# Altium schematic symbol library SchLib_ADH.SchLib: 241 symbols (part 9 of 9)
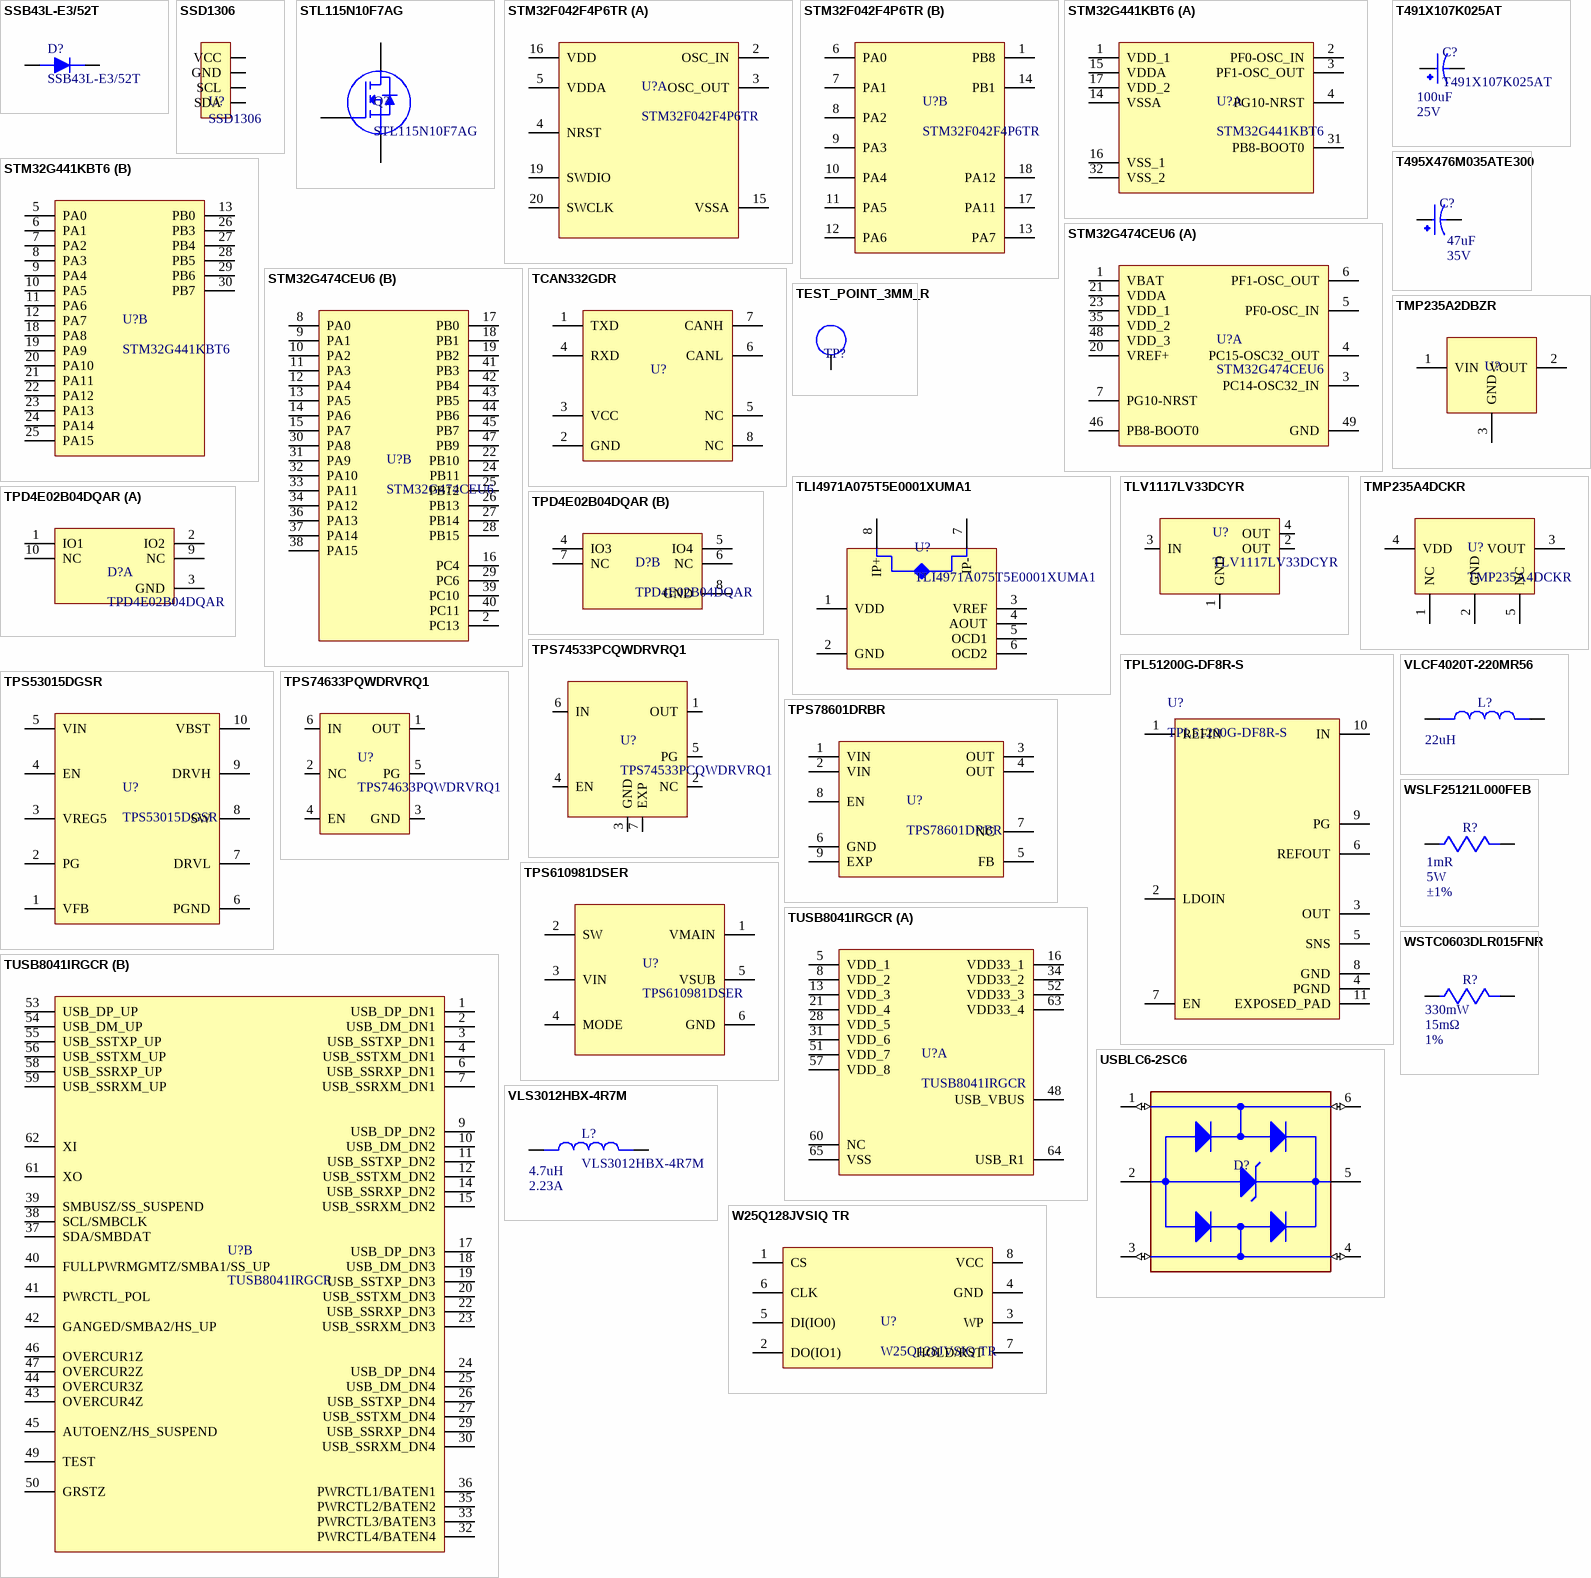
[diagram p15: symbols SSB43L-E3/52T to WSTC0603DLR015FNR]

## TCAN332GDR
designator U?  (value not drawn)
1/1 Transceiver CANbus 8-SOIC; Manufacturer: Texas Instruments; Package Body Material: Plastic; Channels: 1; Nominal Supply Voltage: 3.3V; Telecom IC Type: INTERFACE CIRCUIT; Supplier 1: Digikey; Manufacturer Part Number: TCAN332GDR; RoHS: Yes; Category: Interface ICs; Stock 1: 9379; Pricing 1: 1=2.78, 10=2.493, 25=2.3564, 100=2.0424, 250=1.93764, 500=1.73864, 1000=1.46632 (USD); Case/Package: SOP; Pins: 8; Package Shape: Rectangular; Terminal Finish: Nickel; Min Operating Temperature: -40°C; Max Operating Temperature: 125°C; JESD-609 Code: e4; JESD-30 Code: R-PDSO-G8; Moisture Sensitivity Level: 1; Package Style: SMALL OUTLINEMeter; Surface Mount: Yes; Terminal Form: Gull Wing; Terminal Position: DUAL; Length: 4.9mm; Width: 3.9mm; Height - Seated (Max): 1.75mm; Terminal Pitch: 1.27mm; Temperature Grade: AUTOMOTIVE; Reach SVHC Compliant: Yes; RoHS Compliant: Yes; ComponentLink1URL: https://www.ti.com:443/lit/ds/symlink/tcan330.pdf?src-supplier=IHS+Markit; ComponentLink1Description: https://www.ti.com:443/lit/ds/symlink/tcan330.pdf?src-supplier=IHS+Markit; ComponentLink2URL: http://www.ti.com/lit/ds/symlink/tcan332.pdf?src-supplier=Digikey; ComponentLink2Description: http://www.ti.com/lit/ds/symlink/tcan332.pdf?src-supplier=Digikey; ComponentLink3URL: http://www.ti.com/general/docs/suppproductinfo.tsp?distId=10&amp;gotoUrl=http%3A%2F%2Fwww.ti.com%2Flit%2Fgpn%2Ftcan332&src-supplier=Digikey; ComponentLink3Description: http://www.ti.com/general/docs/suppproductinfo.tsp?distId=10&amp;gotoUrl=http%3A%2F%2Fwww.ti.com%2Flit%2Fgpn%2Ftcan332&src-supplier=Digikey; ComponentLink4URL: http://www.ti.com/lit/gpn/tcan332g?src-supplier=Mouser; ComponentLink4Description: http://www.ti.com/lit/gpn/tcan332g?src-supplier=Mouser; Supplier Part Number 1: 296-48678-1-ND
footprint SOIC127P599X175-8N
pins: 1 TXD, 2 GND, 3 VCC, 4 RXD, 5 NC, 6 CANL, 7 CANH, 8 NC

## TEST_POINT_3MM_R
designator TP?, comment TEST_POINT  (value not drawn)
Test Point R=3mm
footprint TEST_POINT_3MM
pins: 1

## TLI4971A075T5E0001XUMA1
designator U?
TLI4971 Series 3.5 V 75 A High Precision Coreless Current Sensor - PG-TISON-8; Manufacturer: Infineon; Supplier: Digikey; Supplier Part Number: 448-TLI4971A075T5E0001XUMA1CT-ND; Manufacturer Part Number: TLI4971A075T5E0001XUMA1; RoHS: No; Category: Uncategorized; Stock: 7950; Pricing: 1=6,14, 10=4,606, 25=4,094, 50=3,8894, 100=3,7871, 500=3,17296, 1000=2,96825 (USD)
footprint TLI4971A075T5E0001XUMA1
pins: 1 VDD, 2 GND, 3 VREF, 4 AOUT, 5 OCD1, 6 OCD2, 7 IP-, 8 IP+

## TLV1117LV33DCYR
designator U?
IC REG LDO 3.3V 1A SOT223; Manufacturer: Texas Instruments; Supplier: Digi-Key; Supplier Part Number: 296-28778-1-ND; Manufacturer Part Number: TLV1117LV33DCYR; RoHS: Yes; Category: Voltage Regulators - Linear; Stock: 34293; Pricing: 1=0,35, 10=0,285, 25=0,2604, 100=0,1939, 250=0,17576, 500=0,14544, 1000=0,10908 (USD); ComponentLink1URL: https://datasheet.ciiva.com/2060/tlv1117lv-2060227.pdf?src-supplier=Digi-Key; ComponentLink1Description: https://datasheet.ciiva.com/2060/tlv1117lv-2060227.pdf?src-supplier=Digi-Key; ComponentLink2URL: https://datasheet.ciiva.com/2060/tlv1117lv-2060228.pdf?src-supplier=Digi-Key; ComponentLink2Description: https://datasheet.ciiva.com/2060/tlv1117lv-2060228.pdf?src-supplier=Digi-Key; ComponentLink3URL: https://datasheet.ciiva.com/2060/tlv1117lv-2060226.pdf?src-supplier=Digi-Key; ComponentLink3Description: https://datasheet.ciiva.com/2060/tlv1117lv-2060226.pdf?src-supplier=Digi-Key; ComponentLink4URL: https://datasheet.ciiva.com/46443/1857581-46443437.pdf?src-supplier=Element14; ComponentLink4Description: https://datasheet.ciiva.com/46443/1857581-46443437.pdf?src-supplier=Element14; ComponentLink5URL: https://datasheet.ciiva.com/46443/1857581-46443438.pdf?src-supplier=Element14; ComponentLink5Description: https://datasheet.ciiva.com/46443/1857581-46443438.pdf?src-supplier=Element14; ComponentLink6URL: https://datasheet.ciiva.com/46443/1857581-46443450.pdf?src-supplier=Element14; ComponentLink6Description: https://datasheet.ciiva.com/46443/1857581-46443450.pdf?src-supplier=Element14
footprint VREG_TLV1117LV33DCYR
pins: 1 GND, 2 OUT, 3 IN, 4 OUT

## TMP235A2DBZR
designator U?  (value not drawn)
Analog Voltage Output Sensor, 2Cel, Rectangular, Surface Mount; Manufacturer: Texas Instruments; Sensor Type: TEMPERATURE SENSOR,ANALOG,VOLTAGE OUTPUT; Supplier 1: Digikey; Manufacturer Part Number: TMP235A2DBZR; RoHS: Yes; Category: Integrated Circuits (ICs); Stock 1: 6332; Pricing 1: 1=0.6, 10=0.46, 25=0.396, 50=0.3818, 100=0.3252, 500=0.2828, 1000=0.24745 (USD); Terminal Finish: Nickel; JESD-609 Code: e4; Reach SVHC Compliant: Yes; RoHS Compliant: Yes; ComponentLink1URL: https://www.ti.com:443/lit/ds/symlink/tmp235.pdf?src-supplier=IHS+Markit; ComponentLink1Description: https://www.ti.com:443/lit/ds/symlink/tmp235.pdf?src-supplier=IHS+Markit; ComponentLink2URL: http://www.ti.com/lit/gpn/tmp235?src-supplier=Digikey; ComponentLink2Description: http://www.ti.com/lit/gpn/tmp235?src-supplier=Digikey; ComponentLink3URL: http://www.ti.com/general/docs/suppproductinfo.tsp?distId=10&amp;gotoUrl=http%3A%2F%2Fwww.ti.com%2Flit%2Fgpn%2Ftmp235&src-supplier=Digikey; ComponentLink3Description: http://www.ti.com/general/docs/suppproductinfo.tsp?distId=10&amp;gotoUrl=http%3A%2F%2Fwww.ti.com%2Flit%2Fgpn%2Ftmp235&src-supplier=Digikey; Supplier Part Number 1: 296-TMP235A2DBZRCT-ND
footprint SOT95P230X110-3N
pins: 1 VIN, 2 VOUT, 3 GND

## TMP235A4DCKR
designator U?
±1.2°C 2.3V to 5.5V analog output temperature sensor with 10 mV/C gain 5-SC70 -40 to 150; Manufacturer: Texas Instruments; Output Current: 500uA; Supplier: Digikey; Supplier Part Number: 296-50016-1-ND; Manufacturer Part Number: TMP235A4DCKR; RoHS: Yes; Category: Integrated Circuits (ICs); Stock: 9360; Pricing: 1=0,44, 10=0,37, 25=0,3248, 50=0,305, 100=0,26, 500=0,21498, 1000=0,17998 (USD); Pins: 5NUMBER; Max Supply Voltage: 5.5V; Min Supply Voltage: 2.3V; Length: 2mm; Width: 1.25mm; Height: 1.1mm; Thickness: 900um; ComponentLink1URL: http://www.ti.com/general/docs/suppproductinfo.tsp?distId=10&amp;gotoUrl=http%3A%2F%2Fwww.ti.com%2Flit%2Fgpn%2Ftmp235&src-supplier=Digikey; ComponentLink1Description: http://www.ti.com/general/docs/suppproductinfo.tsp?distId=10&amp;gotoUrl=http%3A%2F%2Fwww.ti.com%2Flit%2Fgpn%2Ftmp235&src-supplier=Digikey; ComponentLink2URL: http://www.ti.com/lit/ds/symlink/tmp235.pdf?src-supplier=Digikey; ComponentLink2Description: http://www.ti.com/lit/ds/symlink/tmp235.pdf?src-supplier=Digikey
footprint SOT65P210X110-5N
pins: 1 NC, 2 GND, 3 VOUT, 4 VDD, 5 NC

## TPD4E02B04DQAR
designator D?
TVS DIODE 3.6V 8.8V 10USON / 4-Channel ESD Protection Diode for USB Type-C and HDMI 2.0; Manufacturer: Texas Instruments; Number of Bidirectional Channels: 4; Min Breakdown Voltage: 5.5V; Peak Pulse Power: 17W; Power Line Protection: No; Peak Pulse Current: 5A; Interface: USB,HDMI; Diode Type: ZENER; Direction: 211Direction; Breakdown Voltage: 6.4V; Supplier: Digikey; Supplier Part Number: 296-43875-1-ND; Manufacturer Part Number: TPD4E02B04DQAR; RoHS: Yes; Category: Integrated Circuits (ICs); Stock: 40100; Pricing: 1=0,58, 10=0,495, 100=0,344, 500=0,26858, 1000=0,21831 (USD); Mounting Technology: Surface Mount; Pins: 10; Min Operating Temperature: -40°C; Max Operating Temperature: 125°C; Packaging: Cut Tape; Reverse Standoff Voltage: 3.6V; Operating Supply Voltage: 3.6V; Number of Channels: 4; Series: -; Length: 2.5mm; Width: 1mm; Height: 550um; Thickness: 500um; Reach SVHC Compliant: No; Lead Free: Lead Free; RoHS Compliant: Yes; ComponentLink1URL: http://www.ti.com/lit/ds/symlink/tpd4e02b04.pdf?src-supplier=Farnell; ComponentLink1Description: http://www.ti.com/lit/ds/symlink/tpd4e02b04.pdf?src-supplier=Farnell; ComponentLink2URL: http://www.ti.com/general/docs/lit/getliterature.tsp?genericPartNumber=TPD4E02B04&amp;&amp;fileType=pdf&src-supplier=Element14; ComponentLink2Description: http://www.ti.com/general/docs/lit/getliterature.tsp?genericPartNumber=TPD4E02B04&amp;&amp;fileType=pdf&src-supplier=Element14; ComponentLink3URL: http://www.ti.com/lit/ds/symlink/tpd4e02b04.pdf?src-supplier=Digikey; ComponentLink3Description: http://www.ti.com/lit/ds/symlink/tpd4e02b04.pdf?src-supplier=Digikey; ComponentLink4URL: http://www.ti.com/lit/ds/symlink/tpd4e02b04.pdf?src-supplier=Newark; ComponentLink4Description: http://www.ti.com/lit/ds/symlink/tpd4e02b04.pdf?src-supplier=Newark
footprint 10-UFDFN
part A pins: 1 IO1, 2 IO2, 3 GND, 9 NC, 10 NC
part B pins: 4 IO3, 5 IO4, 6 NC, 7 NC, 8 GND

## TPL51200G-DF8R-S
designator U?
Converter, DDR Bus Termination Regulator Voltage Regulator IC 2 Output 10-DFN (3x3); Datasheet: https://static.3peak.com/res/doc/ds/Datasheet_TPL51200.pdf
footprint SON50P300X300X80-11N
pins: 1 REFIN, 2 LDOIN, 3 OUT, 4 PGND, 5 SNS, 6 REFOUT, 7 EN, 8 GND, 9 PG, 10 IN, 11 EXPOSED_PAD

## TPS53015DGSR
designator U?
Buck Regulator Positive Output Step-Down  DC-DC Controller IC 10-VSSOP; Manufacturer: Texas Instruments; Supplier: Digikey; Supplier Part Number: 296-40777-1-ND; Manufacturer Part Number: TPS53015DGSR; RoHS: Yes; Category: Voltage Regulators - Switching; Stock: 7535; Pricing: 1=1,57, 10=1,4, 25=1,3292, 100=1,0918, 250=1,0206, 500=0,90192, 1000=0,71205 (USD); ComponentLink1URL: https://datasheet.ciiva.com/6594/tps53015-6594678.pdf?src-supplier=Digikey; ComponentLink1Description: https://datasheet.ciiva.com/6594/tps53015-6594678.pdf?src-supplier=Digikey
footprint VSSOP-10
pins: 1 VFB, 2 PG, 3 VREG5, 4 EN, 5 VIN, 6 PGND, 7 DRVL, 8 SW, 9 DRVH, 10 VBST

## TPS74533PCQWDRVRQ1
designator U?
Automotive 500-mA, low-IQ, high-PSRR, low-dropout (LDO) voltage regulator with power good</p 6-WSON -40 to 125; Manufacturer: Texas Instruments; Supplier: Digi-Key; Supplier Part Number: 296-TPS74533PCQWDRVRQ1CT-ND; Manufacturer Part Number: TPS74533PCQWDRVRQ1; RoHS: Yes; Category: Integrated Circuits (ICs); Stock: 5498; Pricing: 1=1,28, 10=1,147, 25=1,0888, 100=0,8944, 250=0,83604, 500=0,73882, 1000=0,58328 (USD); ComponentLink1URL: http://www.ti.com/general/docs/suppproductinfo.tsp?distId=10&amp;gotoUrl=http%3A%2F%2Fwww.ti.com%2Flit%2Fgpn%2Ftps745-q1&src-supplier=Digi-Key; ComponentLink1Description: http://www.ti.com/general/docs/suppproductinfo.tsp?distId=10&amp;gotoUrl=http%3A%2F%2Fwww.ti.com%2Flit%2Fgpn%2Ftps745-q1&src-supplier=Digi-Key
footprint SON65P200X200X80-7N
pins: 1 OUT, 2 NC, 3 GND, 4 EN, 5 PG, 6 IN, 7 EXP

## TPS74633PQWDRVRQ1
designator U?
Automotive 1-A, low-IQ, high-PSRR, low-dropout (LDO) voltage regulator with power good 6-WSON -40 to 125; Manufacturer: Texas Instruments; Supplier: Digi-Key; Supplier Part Number: 296-TPS74633PQWDRVRQ1CT-ND; Manufacturer Part Number: TPS74633PQWDRVRQ1; RoHS: Yes; Category: Integrated Circuits (ICs); Stock: 2693; Pricing: 1=1,46, 10=1,302, 25=1,236, 100=1,0152, 250=0,94896, 500=0,8386, 1000=0,66206 (USD)
footprint SON65P200X200X80-7N
pins: 1 OUT, 2 NC, 3 GND, 4 EN, 5 PG, 6 IN

## TPS78601DRBR
designator U?
Adjustable Positive LDO Regulator, 1.2V Min, 5.5V Max, BICMOS, PDSO8; Manufacturer: Texas Instruments; Package Body Material: Plastic; Dropout Voltage1-Nom: 410mV; Line Regulation-Max (%/V): 0.12; Channels: 1; Output Current1-Max: 1.5A; Package Equivalence Code: SOLCC8,.12,25; Regulator Type: ADJUSTABLE POSITIVE SINGLE OUTPUT LDO REGULATOR; Qualification Status: Not Qualified; Supplier 1: Digikey; Manufacturer Part Number: TPS78601DRBR; RoHS: Yes; Category: Voltage Regulators - Linear; Stock 1: 6178; Pricing 1: 1=2.82, 10=2.053, 25=1.862, 100=1.7707 (USD); Case/Package: HVSON; Pins: 8; Package Shape: Square; Terminal Finish: Nickel; JESD-609 Code: e4; Adjustability: ADJUSTABLE; JESD-30 Code: S-PDSO-N8; Moisture Sensitivity Level: 2; Number of Outputs: 1; Operating Temperature, TJ-Max: 125°C; Operating Temperature, TJ-Min: -40°C; Output Voltage1-Max: 5.5V; Output Voltage1-Min: 1.2V; Package Style: SMALL OUTLINE, HEAT SINK/SLUG, VERY THIN PROFILEMeter; Packaging: Tape and Reel; Peak Reflow Temperature (Cel): 260°C; Surface Mount: Yes; Technology: BICMOS; Terminal Form: No Lead; Terminal Position: DUAL; Length: 3mm; Width: 3mm; Height - Seated (Max): 1mm; Terminal Pitch: 0.65mm; Reach SVHC Compliant: Yes; RoHS Compliant: Yes; ComponentLink1URL: https://datasheet.ciiva.com:443/pdfs/VipMasterIC/IC/TXII/TXII-S-A0008609919/TXII-S-A0009735718-1.pdf?src-supplier=IHS+Markit; ComponentLink1Description: https://datasheet.ciiva.com:443/pdfs/VipMasterIC/IC/TXII/TXII-S-A0008609919/TXII-S-A0009735718-1.pdf?src-supplier=IHS+Markit; ComponentLink2URL: https://datasheet.ciiva.com/2046/tps78601-2046274.pdf?src-supplier=Digikey; ComponentLink2Description: https://datasheet.ciiva.com/2046/tps78601-2046274.pdf?src-supplier=Digikey; ComponentLink3URL: https://datasheet.ciiva.com/2046/tps78601-2046275.pdf?src-supplier=Digikey; ComponentLink3Description: https://datasheet.ciiva.com/2046/tps78601-2046275.pdf?src-supplier=Digikey; ComponentLink4URL: https://datasheet.ciiva.com/2046/tps78601-2046276.pdf?src-supplier=Digikey; ComponentLink4Description: https://datasheet.ciiva.com/2046/tps78601-2046276.pdf?src-supplier=Digikey; Supplier Part Number 1: 296-29079-1-ND
footprint 8-VSON
pins: 1 VIN, 2 VIN, 3 OUT, 4 OUT, 5 FB, 6 GND, 7 NC, 8 EN, 9 EXP

## TPS610981DSER
designator U?
Conv DC-DC 0.7V to 4.5V Synchronous Step Up Single-Out 3.4V 0.05A Medical 6-Pin WSON T/R; Manufacturer: Texas Instruments; Supplier: Digi-Key; Supplier Part Number: 296-46243-1-ND; Manufacturer Part Number: TPS610981DSER; RoHS: Yes; Category: Voltage Regulators - Switching; Stock: 12924; Pricing: 1=1,6, 10=1,433, 25=1,3604, 100=1,1174, 250=1,04448, 500=0,92304, 1000=0,72872 (USD); ComponentLink1URL: http://www.ti.com/lit/ds/symlink/tps610981.pdf?src-supplier=Digi-Key; ComponentLink1Description: http://www.ti.com/lit/ds/symlink/tps610981.pdf?src-supplier=Digi-Key; ComponentLink2URL: http://www.ti.com/general/docs/suppproductinfo.tsp?distId=10&amp;gotoUrl=http%3A%2F%2Fwww.ti.com%2Flit%2Fgpn%2Ftps610981&src-supplier=Digi-Key; ComponentLink2Description: http://www.ti.com/general/docs/suppproductinfo.tsp?distId=10&amp;gotoUrl=http%3A%2F%2Fwww.ti.com%2Flit%2Fgpn%2Ftps610981&src-supplier=Digi-Key
footprint SON50P150X150X80-6N - NO EXP
pins: 1 VMAIN, 2 SW, 3 VIN, 4 MODE, 5 VSUB, 6 GND

## TUSB8041IRGCR
designator U?
Full Speed/High Speed/Super Speed Four Port USB 3.0 Hub USB 3.0 1.1V/3.3V T/R 64-Pin VQFN EP; Manufacturer: Texas Instruments; Supplier: Digikey; Supplier Part Number: 296-41027-1-ND; Manufacturer Part Number: TUSB8041IRGCR; RoHS: Yes; Category: Integrated Circuits (ICs); Stock: 2335; Pricing: 1=9,5, 10=7,141, 25=6,5504, 100=5,9016, 250=5,5922, 500=5,4056, 1000=5,25201 (USD); Length: 9mm; Width: 9mm; Height: 1mm; Thickness: 880um; ComponentLink1URL: http://www.ti.com/lit/gpn/tusb8041?src-supplier=Mouser; ComponentLink1Description: http://www.ti.com/lit/gpn/tusb8041?src-supplier=Mouser; ComponentLink2URL: http://www.ti.com/general/docs/suppproductinfo.tsp?distId=10&amp;gotoUrl=http%3A%2F%2Fwww.ti.com%2Flit%2Fgpn%2Ftusb8041&src-supplier=Digikey; ComponentLink2Description: http://www.ti.com/general/docs/suppproductinfo.tsp?distId=10&amp;gotoUrl=http%3A%2F%2Fwww.ti.com%2Flit%2Fgpn%2Ftusb8041&src-supplier=Digikey; ComponentLink3URL: http://www.ti.com/lit/ds/symlink/tusb8041.pdf?src-supplier=Digikey; ComponentLink3Description: http://www.ti.com/lit/ds/symlink/tusb8041.pdf?src-supplier=Digikey; ComponentLink4URL: http://www.ti.com/general/docs/lit/getliterature.tsp?genericPartNumber=TUSB8041&&fileType=pdf&src-supplier=Avnet; ComponentLink4Description: http://www.ti.com/general/docs/lit/getliterature.tsp?genericPartNumber=TUSB8041&&fileType=pdf&src-supplier=Avnet
footprint QFN50P900X900X100-65N-D
part A pins: 5 VDD_1, 8 VDD_2, 13 VDD_3, 16 VDD33_1, 21 VDD_4, 28 VDD_5, 31 VDD_6, 34 VDD33_2, 48 USB_VBUS, 51 VDD_7, 52 VDD33_3, 57 VDD_8, 60 NC, 63 VDD33_4, 64 USB_R1, 65 VSS
part B pins: 1 USB_DP_DN1, 2 USB_DM_DN1, 3 USB_SSTXP_DN1, 4 USB_SSTXM_DN1, 6 USB_SSRXP_DN1, 7 USB_SSRXM_DN1, 9 USB_DP_DN2, 10 USB_DM_DN2, 11 USB_SSTXP_DN2, 12 USB_SSTXM_DN2, 14 USB_SSRXP_DN2, 15 USB_SSRXM_DN2, 17 USB_DP_DN3, 18 USB_DM_DN3, 19 USB_SSTXP_DN3, 20 USB_SSTXM_DN3, 22 USB_SSRXP_DN3, 23 USB_SSRXM_DN3, 24 USB_DP_DN4, 25 USB_DM_DN4, 26 USB_SSTXP_DN4, 27 USB_SSTXM_DN4, 29 USB_SSRXP_DN4, 30 USB_SSRXM_DN4, 32 PWRCTL4/BATEN4, 33 PWRCTL3/BATEN3, 35 PWRCTL2/BATEN2, 36 PWRCTL1/BATEN1, 37 SDA/SMBDAT, 38 SCL/SMBCLK, 39 SMBUSZ/SS_SUSPEND, 40 FULLPWRMGMTZ/SMBA1/SS_UP, 41 PWRCTL_POL, 42 GANGED/SMBA2/HS_UP, 43 OVERCUR4Z, 44 OVERCUR3Z, 45 AUTOENZ/HS_SUSPEND, 46 OVERCUR1Z, 47 OVERCUR2Z, 49 TEST, 50 GRSTZ, 53 USB_DP_UP, 54 USB_DM_UP, 55 USB_SSTXP_UP, 56 USB_SSTXM_UP, 58 USB_SSRXP_UP, 59 USB_SSRXM_UP, 61 XO, 62 XI

## USBLC6-2SC6
designator D?  (value not drawn)
Trans Voltage Suppressor Diode, 5V V(RWM), Unidirectional, 1 Element, Silicon; Manufacturer: STMicroelectronics; Package Body Material: Plastic; Additional Feature: HIGH RELIABILITY; Min Breakdown Voltage: 6V; Number of Elements: 1; Clamping Voltage-Max: 17V; Reference Standard: IEC-61000-4-2; Qualification Status: Not Qualified; Supplier 1: Digikey; Manufacturer Part Number: USBLC6-2SC6; RoHS: Yes; Category: TVS Diodes; Stock 1: 69564; Pricing 1: 1=0.58, 10=0.496, 100=0.3448, 500=0.2692, 1000=0.21881 (USD); Pins: 6; Package Shape: Rectangular; Terminal Finish: Tin; Diode Element Material: SILICON; Min Operating Temperature: -40°C; Max Operating Temperature: 125°C; JESD-609 Code: e3; Polarity: Unidirectional; Package Style: SMALL OUTLINEMeter; Diode Type: TRANS VOLTAGE SUPPRESSOR; JESD-30 Code: R-PDSO-G6; Moisture Sensitivity Level: 1; Rep Pk Reverse Voltage-Max: 5V; Surface Mount: Yes; Technology: AVALANCHE; Terminal Form: Gull Wing; Terminal Position: DUAL; Peak Reflow Temperature (Cel): 260°C; Reach SVHC Compliant: Yes; RoHS Compliant: Yes; ComponentLink1URL: https://datasheet.ciiva.com:443/pdfs/VipMasterIC/IC/SGST/SGSTS30336/SGSTS30336-1.pdf?src-supplier=IHS+Markit; ComponentLink1Description: https://datasheet.ciiva.com:443/pdfs/VipMasterIC/IC/SGST/SGSTS30336/SGSTS30336-1.pdf?src-supplier=IHS+Markit; ComponentLink2URL: https://datasheet.ciiva.com/1268/1690354-1268384.pdf?src-supplier=Element14; ComponentLink2Description: https://datasheet.ciiva.com/1268/1690354-1268384.pdf?src-supplier=Element14; ComponentLink3URL: https://datasheet.ciiva.com/4508/cd00050750-113117-4508433.pdf?src-supplier=Mouser; ComponentLink3Description: https://datasheet.ciiva.com/4508/cd00050750-113117-4508433.pdf?src-supplier=Mouser; ComponentLink4URL: https://datasheet.ciiva.com/15143/getdatasheetpartid-148465-15143789.pdf?src-supplier=Verical; ComponentLink4Description: https://datasheet.ciiva.com/15143/getdatasheetpartid-148465-15143789.pdf?src-supplier=Verical; ComponentLink5URL: https://datasheet.ciiva.com/16200/cd00050750-16200026.pdf?src-supplier=Future+Electronics; ComponentLink5Description: https://datasheet.ciiva.com/16200/cd00050750-16200026.pdf?src-supplier=Future+Electronics; ComponentLink6URL: https://datasheet.ciiva.com/41444/001184109-da-01-en-ic-esd-protecti-usblc6-2sc6-sot-23-6-stm-41444156.pdf?src-supplier=Conrad; ComponentLink6Description: https://datasheet.ciiva.com/41444/001184109-da-01-en-ic-esd-protecti-usblc6-2sc6-sot-23-6-stm-41444156.pdf?src-supplier=Conrad; Supplier Part Number 1: 497-5235-1-ND
footprint SOT95P280X145-6N
pins: 1 I/O1_IN (io), 2 GND (power), 3 I/O2_IN (io), 4 I/O2_OUT (io), 5 VBUS (power), 6 I/O1_OUT (io)

## VLCF4020T-220MR56
designator L?  value 22uH  (hidden comment: VLCF4020T-220MR56)
Inductor Power Shielded Wirewound 22uH 20% 100KHz Ferrite 830mA 431mOhm DCR 1515 Blister T/R; Manufacturer: TDK; Supplier: Digikey; Supplier Part Number: 445-3188-1-ND; Manufacturer Part Number: VLCF4020T-220MR56; RoHS: Yes; Category: Fixed Inductors; Stock: 21696; Pricing: 1=0,61, 10=0,525, 25=0,4816, 50=0,4378, 100=0,3896, 250=0,36772, 500=0,31518 (USD); ComponentLink1URL: https://datasheet.ciiva.com/15160/getdatasheetpartid-122360-15160436.pdf?src-supplier=Verical; ComponentLink1Description: https://datasheet.ciiva.com/15160/getdatasheetpartid-122360-15160436.pdf?src-supplier=Verical; ComponentLink2URL: https://datasheet.ciiva.com/11802/0900766b807a173d-11802556.pdf?src-supplier=Rs; ComponentLink2Description: https://datasheet.ciiva.com/11802/0900766b807a173d-11802556.pdf?src-supplier=Rs; ComponentLink3URL: https://datasheet.ciiva.com/8045/321084-8045781.pdf?src-supplier=Element14; ComponentLink3Description: https://datasheet.ciiva.com/8045/321084-8045781.pdf?src-supplier=Element14; ComponentLink4URL: https://datasheet.ciiva.com/30100/print-detail-pdf-phplangenpart-novlcf4020t-220mr56nreimp-unit-xmh-30100198.pdf?src-supplier=Onlinecomponents.com; ComponentLink4Description: https://datasheet.ciiva.com/30100/print-detail-pdf-phplangenpart-novlcf4020t-220mr56nreimp-unit-xmh-30100198.pdf?src-supplier=Onlinecomponents.com; ComponentLink5URL: https://datasheet.ciiva.com/15993/e531-vlcf4020-15993468.pdf?src-supplier=Onlinecomponents.com; ComponentLink5Description: https://datasheet.ciiva.com/15993/e531-vlcf4020-15993468.pdf?src-supplier=Onlinecomponents.com
footprint IND_VLCF4020T-220MR56
pins: 1, 2

## VLS3012HBX-4R7M
designator L?  value 4.7uH  Current Rating: 2.23A
Inductor Power Shielded Wirewound 4.7uH 20% 1MHz Metal 2.01A 0.201Ohm DCR 1212 T/R; Manufacturer: TDK; Saturation Current: 2.51A; DC Resistance (DCR): 201mR; Supplier: Digi-Key; Supplier Part Number: 445-175071-1-ND; Manufacturer Part Number: VLS3012HBX-4R7M; RoHS: Yes; Category: Fixed Inductors; Stock: 34441; Pricing: 1=0,6, 10=0,512, 25=0,4692, 50=0,4264, 100=0,3795, 250=0,3582, 500=0,30702, 1000=0,27291 (USD); Mounting Technology: Surface Mount; Case/Package: Nonstandard; Core Material: Metal; Min Operating Temperature: -40°C; Max Operating Temperature: 105°C; Packaging: Cut Tape; Tolerance: 20%; Shielding: Shielded; Test Frequency: 1MHz; Series: VLS-HBX; RoHS Compliant: Yes; ComponentLink1URL: https://product.tdk.com/info/en/catalog/datasheets/inductor_commercial_power_vls3012hbx_en.pdf?src-supplier=Digi-Key; ComponentLink1Description: https://product.tdk.com/info/en/catalog/datasheets/inductor_commercial_power_vls3012hbx_en.pdf?src-supplier=Digi-Key
footprint IND_VLS3012HBX-4R7M
pins: 1, 2

## W25Q128JVSIQ TR
designator U?
Flash, 16MX8, PDSO8; Manufacturer: Winbond; Package Body Material: Plastic; Clock Frequency: 133MHz; Density: 134217728b; Memory Width: 8; Channels: 1; Memory Size: 16777216; Number of Words Code: 16M; Operating Mode: SYNCHRONOUS; Parallel/Serial: SERIAL; Programming Voltage: 3V; Max Supply Voltage: 3.6V; Min Supply Voltage: 2.7V; Supplier 1: Digikey; Manufacturer Part Number: W25Q128JVSIQ TR; RoHS: Yes; Category: Flash; Stock 1: 326186; Pricing 1: 1=1.72, 10=1.572, 25=1.53, 50=1.522, 100=1.3605, 250=1.3566, 500=1.3361, 1000=1.27939 (USD); Case/Package: SOP; Pins: 8; Package Shape: Square; Min Operating Temperature: -40°C; Max Operating Temperature: 85°C; Memory Format: FLASH; Type: NOR TYPE; JESD-30 Code: S-PDSO-G8; Organization: 16MX8; Package Style: SMALL OUTLINEMeter; Nominal Supply Voltage: 3V; Surface Mount: Yes; Technology: CMOS; Terminal Form: Gull Wing; Terminal Position: DUAL; Length: 5.23mm; Width: 5.23mm; Height - Seated (Max): 2.16mm; Terminal Pitch: 1.27mm; Temperature Grade: INDUSTRIAL; Reach SVHC Compliant: Yes; RoHS Compliant: Yes; ComponentLink1URL: https://datasheet.ciiva.com:443/pdfs/VipMasterIC/IC/WBND/WBND-S-A0002933800/WBND-S-A0002933800-1.pdf?src-supplier=IHS+Markit; ComponentLink1Description: https://datasheet.ciiva.com:443/pdfs/VipMasterIC/IC/WBND/WBND-S-A0002933800/WBND-S-A0002933800-1.pdf?src-supplier=IHS+Markit; ComponentLink2URL: http://www.winbond.com/resource-files/w25q128jv%20revf%2003272018%20plus.pdf?src-supplier=Digikey; ComponentLink2Description: http://www.winbond.com/resource-files/w25q128jv%20revf%2003272018%20plus.pdf?src-supplier=Digikey; ComponentLink3URL: http://www.winbond.com/resource-files/w25q128jv%20spi%20revc%2011162016.pdf?src-supplier=Digikey; ComponentLink3Description: http://www.winbond.com/resource-files/w25q128jv%20spi%20revc%2011162016.pdf?src-supplier=Digikey; Supplier Part Number 1: W25Q128JVSIQCT-ND
footprint SOIC127P790X216-8N
pins: 1 CS, 2 DO(IO1), 3 WP, 4 GND, 5 DI(IO0), 6 CLK, 7 HOLD/RST, 8 VCC

## WSLF25121L000FEB
designator R?  value 1mR  Tolerance: ±1%  Power Rating: 5W  (hidden comment: WSLF25121L000FEB)
Fixed Resistor, Metal Strip, 6W, 0.001ohm, 0.0774V, 1% +/-Tol, 170ppm/Cel, Surface Mount, 2512; Manufacturer: Vishay Dale; Supplier 1: Digikey; Manufacturer Part Number: WSLF25121L000FEB; RoHS: Yes; Category: Chip SMD Resistors; Stock 1: 9221; Pricing 1: 1=0.8, 10=0.629, 25=0.5684, 50=0.5116, 100=0.4226, 250=0.39796, 500=0.32216 (USD); RoHS Compliant: Yes; ComponentLink1URL: http://www.vishay.com/docs/30193/wslf.pdf?src-supplier=Digikey; ComponentLink1Description: http://www.vishay.com/docs/30193/wslf.pdf?src-supplier=Digikey; ComponentLink2URL: https://datasheet.octopart.com/WSLF25121L000FEB-Vishay-datasheet-68299443.pdf?src-supplier=Future+Electronics; ComponentLink2Description: https://datasheet.octopart.com/WSLF25121L000FEB-Vishay-datasheet-68299443.pdf?src-supplier=Future+Electronics; Supplier Part Number 1: 541-3130-1-ND
footprint RESC6330X90N
pins: 1, 2

## WSTC0603DLR015FNR
designator R?  value 15mΩ  Tolerance: 1%  Power Dissipation: 330mW  (hidden comment: WSTC0603DLR015FNR)
Fixed Resistor, Metal Foil, 0.33W, 0.015ohm, 1% +/-Tol, 75ppm/Cel, Surface Mount, 0603; Manufacturer: Littelfuse; Temperature Coefficient: 75ppm/°C; Supplier: Mouser; Supplier Part Number: 576-WSTC0603DLR015FN; Manufacturer Part Number: WSTC0603DLR015FNR; RoHS: Compliant; Category: Chip SMD Resistors; Stock: 4890; Pricing: 1=0,46, 10=0,293, 50=0,221, 100=0,197, 1000=0,14, 10000=0,104 (USD); Height: 350µm; Lifecycle Status: Production; Max Operating Temperature: 155°C; Min Operating Temperature: -55°C; Mounting Technology: Surface Mount; Number of Terminals: 2; Width: 800µm; ComponentLink1URL: https://datasheet.octopart.com:443/WSTC0603DLR015FNR-Littelfuse-datasheet-182144291.pdf?src-supplier=IHS; ComponentLink1Description: https://datasheet.octopart.com:443/WSTC0603DLR015FNR-Littelfuse-datasheet-182144291.pdf?src-supplier=IHS
footprint RESISTOR_0603
pins: 1, 2

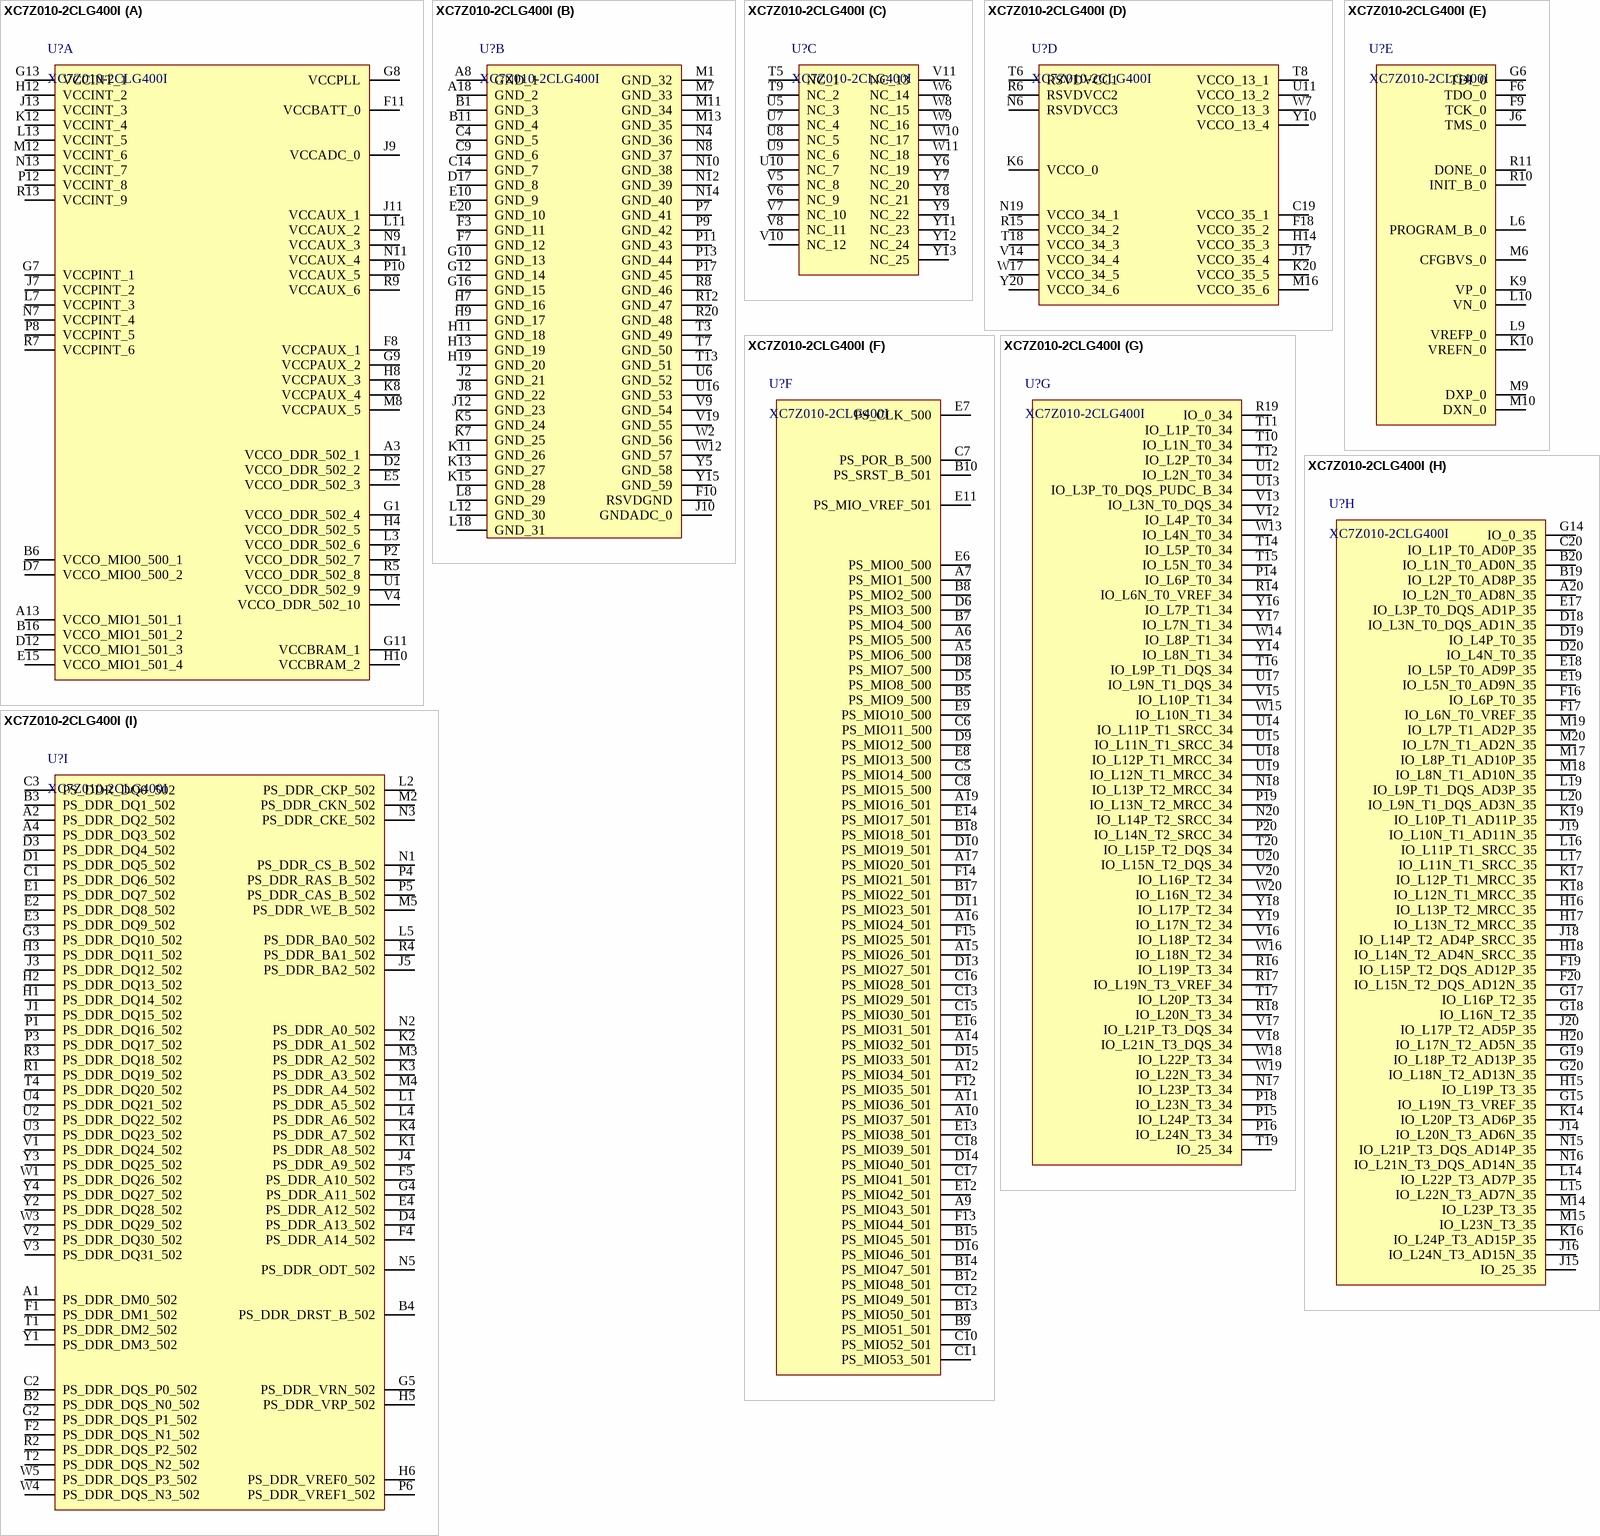
[diagram p7: symbol XC7Z010-2CLG400I]

## XC7Z010-2CLG400I
designator U?
MPU Zynq-7000 Thumb-2 32-Bit 733MHz 1.2V/3.3V 400-Pin CS-BGA; Manufacturer: AMD; Core Architecture: ARM; Data Bus Width: 32b; Frequency: 766MHz; Interface: CAN, EBI/EMI, Ethernet, I2C, MMC, SD, SDIO, SPI, UART, USART, USB; Max Supply Voltage: 1.05V; Min Supply Voltage: 950mV; Number of I/Os: 130; Operating Supply Voltage: 1V; Peripherals: DMA; Speed Grade: -2; Supplier: Farnell; Supplier Part Number: 2831085; Manufacturer Part Number: XC7Z010-2CLG400I; RoHS: Compliant; Category: System on Chip (SoC); Stock: 89; Pricing: 1=78,2 (EUR); Case/Package: BGA; China RoHS: Compliant; Contact Plating: Copper, Silver, Tin; Height - Seated (Max): 1.6mm; Length: 17mm; Lifecycle Status: Production; Clock Frequency: 733MHz; Max Operating Temperature: 100°C; Min Operating Temperature: -40°C; Pins: 400; Number of Terminals: 400; Radiation Hardening: No; REACH SVHC: Yes; Terminal Pitch: 800µm; Width: 17mm; ComponentLink1URL: https://datasheet.octopart.com:443/XC7Z010-2CLG400I-AMD-datasheet-159618399.pdf?src-supplier=IHS; ComponentLink1Description: https://datasheet.octopart.com:443/XC7Z010-2CLG400I-AMD-datasheet-159618399.pdf?src-supplier=IHS; ComponentLink2URL: https://datasheet.octopart.com:443/XC7Z010-2CLG400I-Xilinx-datasheet-134531205.pdf?src-supplier=Upverter; ComponentLink2Description: https://datasheet.octopart.com:443/XC7Z010-2CLG400I-Xilinx-datasheet-134531205.pdf?src-supplier=Upverter; ComponentLink3URL: https://datasheet.octopart.com:443/XC7Z010-2CLG400I-AMD-datasheet-101617038.pdf?src-supplier=Farnell; ComponentLink3Description: https://datasheet.octopart.com:443/XC7Z010-2CLG400I-AMD-datasheet-101617038.pdf?src-supplier=Farnell; ComponentLink4URL: https://datasheet.octopart.com:443/XC7Z010-2CLG400I-Xilinx-datasheet-159009919.pdf?src-supplier=Augswan; ComponentLink4Description: https://datasheet.octopart.com:443/XC7Z010-2CLG400I-Xilinx-datasheet-159009919.pdf?src-supplier=Augswan
footprint BGA400C80P20X20_1700X1700X160
part A pins: A3 VCCO_DDR_502_1, A13 VCCO_MIO1_501_1, B6 VCCO_MIO0_500_1, B16 VCCO_MIO1_501_2, D2 VCCO_DDR_502_2, D7 VCCO_MIO0_500_2, D12 VCCO_MIO1_501_3, E5 VCCO_DDR_502_3, E15 VCCO_MIO1_501_4, F8 VCCPAUX_1, F11 VCCBATT_0, G1 VCCO_DDR_502_4, G7 VCCPINT_1, G8 VCCPLL, G9 VCCPAUX_2, G11 VCCBRAM_1, G13 VCCINT_1, H4 VCCO_DDR_502_5, H8 VCCPAUX_3, H10 VCCBRAM_2, H12 VCCINT_2, J7 VCCPINT_2, J9 VCCADC_0, J11 VCCAUX_1, J13 VCCINT_3, K8 VCCPAUX_4, K12 VCCINT_4, L3 VCCO_DDR_502_6, L7 VCCPINT_3, L11 VCCAUX_2, L13 VCCINT_5, M8 VCCPAUX_5, M12 VCCINT_6, N7 VCCPINT_4, N9 VCCAUX_3, N11 VCCAUX_4, N13 VCCINT_7, P2 VCCO_DDR_502_7, P8 VCCPINT_5, P10 VCCAUX_5, P12 VCCINT_8, R5 VCCO_DDR_502_8, R7 VCCPINT_6, R9 VCCAUX_6, R13 VCCINT_9, U1 VCCO_DDR_502_9, V4 VCCO_DDR_502_10
part B pins: A8 GND_1, A18 GND_2, B1 GND_3, B11 GND_4, C4 GND_5, C9 GND_6, C14 GND_7, D17 GND_8, E10 GND_9, E20 GND_10, F3 GND_11, F7 GND_12, F10 RSVDGND, G10 GND_13, G12 GND_14, G16 GND_15, H7 GND_16, H9 GND_17, H11 GND_18, H13 GND_19, H19 GND_20, J2 GND_21, J8 GND_22, J10 GNDADC_0, J12 GND_23, K5 GND_24, K7 GND_25, K11 GND_26, K13 GND_27, K15 GND_28, L8 GND_29, L12 GND_30, L18 GND_31, M1 GND_32, M7 GND_33, M11 GND_34, M13 GND_35, N4 GND_36, N8 GND_37, N10 GND_38, N12 GND_39, N14 GND_40, P7 GND_41, P9 GND_42, P11 GND_43, P13 GND_44, P17 GND_45, R8 GND_46, R12 GND_47, R20 GND_48, T3 GND_49, T7 GND_50, T13 GND_51, U6 GND_52, U16 GND_53, V9 GND_54, V19 GND_55, W2 GND_56, W12 GND_57, Y5 GND_58, Y15 GND_59
part C pins: T5 NC_1, T9 NC_2, U5 NC_3, U7 NC_4, U8 NC_5, U9 NC_6, U10 NC_7, V5 NC_8, V6 NC_9, V7 NC_10, V8 NC_11, V10 NC_12, V11 NC_13, W6 NC_14, W8 NC_15, W9 NC_16, W10 NC_17, W11 NC_18, Y6 NC_19, Y7 NC_20, Y8 NC_21, Y9 NC_22, Y11 NC_23, Y12 NC_24, Y13 NC_25
part D pins: C19 VCCO_35_1, F18 VCCO_35_2, H14 VCCO_35_3, J17 VCCO_35_4, K6 VCCO_0, K20 VCCO_35_5, M16 VCCO_35_6, N6 RSVDVCC3, N19 VCCO_34_1, R6 RSVDVCC2, R15 VCCO_34_2, T6 RSVDVCC1, T8 VCCO_13_1, T18 VCCO_34_3, U11 VCCO_13_2, V14 VCCO_34_4, W7 VCCO_13_3, W17 VCCO_34_5, Y10 VCCO_13_4, Y20 VCCO_34_6
part E pins: F6 TDO_0, F9 TCK_0, G6 TDI_0, J6 TMS_0, K9 VP_0, K10 VREFN_0, L6 PROGRAM_B_0, L9 VREFP_0, L10 VN_0, M6 CFGBVS_0, M9 DXP_0, M10 DXN_0, R10 INIT_B_0, R11 DONE_0
part F pins: A5 PS_MIO6_500, A6 PS_MIO5_500, A7 PS_MIO1_500, A9 PS_MIO43_501, A10 PS_MIO37_501, A11 PS_MIO36_501, A12 PS_MIO34_501, A14 PS_MIO32_501, A15 PS_MIO26_501, A16 PS_MIO24_501, A17 PS_MIO20_501, A19 PS_MIO16_501, B5 PS_MIO9_500, B7 PS_MIO4_500, B8 PS_MIO2_500, B9 PS_MIO51_501, B10 PS_SRST_B_501, B12 PS_MIO48_501, B13 PS_MIO50_501, B14 PS_MIO47_501, B15 PS_MIO45_501, B17 PS_MIO22_501, B18 PS_MIO18_501, C5 PS_MIO14_500, C6 PS_MIO11_500, C7 PS_POR_B_500, C8 PS_MIO15_500, C10 PS_MIO52_501, C11 PS_MIO53_501, C12 PS_MIO49_501, C13 PS_MIO29_501, C15 PS_MIO30_501, C16 PS_MIO28_501, C17 PS_MIO41_501, C18 PS_MIO39_501, D5 PS_MIO8_500, D6 PS_MIO3_500, D8 PS_MIO7_500, D9 PS_MIO12_500, D10 PS_MIO19_501, D11 PS_MIO23_501, D13 PS_MIO27_501, D14 PS_MIO40_501, D15 PS_MIO33_501, D16 PS_MIO46_501, E6 PS_MIO0_500, E7 PS_CLK_500, E8 PS_MIO13_500, E9 PS_MIO10_500, E11 PS_MIO_VREF_501, E12 PS_MIO42_501, E13 PS_MIO38_501, E14 PS_MIO17_501, E16 PS_MIO31_501, F12 PS_MIO35_501, F13 PS_MIO44_501, F14 PS_MIO21_501, F15 PS_MIO25_501
part G pins: N17 IO_L23P_T3_34, N18 IO_L13P_T2_MRCC_34, N20 IO_L14P_T2_SRCC_34, P14 IO_L6P_T0_34, P15 IO_L24P_T3_34, P16 IO_L24N_T3_34, P18 IO_L23N_T3_34, P19 IO_L13N_T2_MRCC_34, P20 IO_L14N_T2_SRCC_34, R14 IO_L6N_T0_VREF_34, R16 IO_L19P_T3_34, R17 IO_L19N_T3_VREF_34, R18 IO_L20N_T3_34, R19 IO_0_34, T10 IO_L1N_T0_34, T11 IO_L1P_T0_34, T12 IO_L2P_T0_34, T14 IO_L5P_T0_34, T15 IO_L5N_T0_34, T16 IO_L9P_T1_DQS_34, T17 IO_L20P_T3_34, T19 IO_25_34, T20 IO_L15P_T2_DQS_34, U12 IO_L2N_T0_34, U13 IO_L3P_T0_DQS_PUDC_B_34, U14 IO_L11P_T1_SRCC_34, U15 IO_L11N_T1_SRCC_34, U17 IO_L9N_T1_DQS_34, U18 IO_L12P_T1_MRCC_34, U19 IO_L12N_T1_MRCC_34, U20 IO_L15N_T2_DQS_34, V12 IO_L4P_T0_34, V13 IO_L3N_T0_DQS_34, V15 IO_L10P_T1_34, V16 IO_L18P_T2_34, V17 IO_L21P_T3_DQS_34, V18 IO_L21N_T3_DQS_34, V20 IO_L16P_T2_34, W13 IO_L4N_T0_34, W14 IO_L8P_T1_34, W15 IO_L10N_T1_34, W16 IO_L18N_T2_34, W18 IO_L22P_T3_34, W19 IO_L22N_T3_34, W20 IO_L16N_T2_34, Y14 IO_L8N_T1_34, Y16 IO_L7P_T1_34, Y17 IO_L7N_T1_34, Y18 IO_L17P_T2_34, Y19 IO_L17N_T2_34
part H pins: A20 IO_L2N_T0_AD8N_35, B19 IO_L2P_T0_AD8P_35, B20 IO_L1N_T0_AD0N_35, C20 IO_L1P_T0_AD0P_35, D18 IO_L3N_T0_DQS_AD1N_35, D19 IO_L4P_T0_35, D20 IO_L4N_T0_35, E17 IO_L3P_T0_DQS_AD1P_35, E18 IO_L5P_T0_AD9P_35, E19 IO_L5N_T0_AD9N_35, F16 IO_L6P_T0_35, F17 IO_L6N_T0_VREF_35, F19 IO_L15P_T2_DQS_AD12P_35, F20 IO_L15N_T2_DQS_AD12N_35, G14 IO_0_35, G15 IO_L19N_T3_VREF_35, G17 IO_L16P_T2_35, G18 IO_L16N_T2_35, G19 IO_L18P_T2_AD13P_35, G20 IO_L18N_T2_AD13N_35, H15 IO_L19P_T3_35, H16 IO_L13P_T2_MRCC_35, H17 IO_L13N_T2_MRCC_35, H18 IO_L14N_T2_AD4N_SRCC_35, H20 IO_L17N_T2_AD5N_35, J14 IO_L20N_T3_AD6N_35, J15 IO_25_35, J16 IO_L24N_T3_AD15N_35, J18 IO_L14P_T2_AD4P_SRCC_35, J19 IO_L10N_T1_AD11N_35, J20 IO_L17P_T2_AD5P_35, K14 IO_L20P_T3_AD6P_35, K16 IO_L24P_T3_AD15P_35, K17 IO_L12P_T1_MRCC_35, K18 IO_L12N_T1_MRCC_35, K19 IO_L10P_T1_AD11P_35, L14 IO_L22P_T3_AD7P_35, L15 IO_L22N_T3_AD7N_35, L16 IO_L11P_T1_SRCC_35, L17 IO_L11N_T1_SRCC_35, L19 IO_L9P_T1_DQS_AD3P_35, L20 IO_L9N_T1_DQS_AD3N_35, M14 IO_L23P_T3_35, M15 IO_L23N_T3_35, M17 IO_L8P_T1_AD10P_35, M18 IO_L8N_T1_AD10N_35, M19 IO_L7P_T1_AD2P_35, M20 IO_L7N_T1_AD2N_35, N15 IO_L21P_T3_DQS_AD14P_35, N16 IO_L21N_T3_DQS_AD14N_35
part I pins: A1 PS_DDR_DM0_502, A2 PS_DDR_DQ2_502, A4 PS_DDR_DQ3_502, B2 PS_DDR_DQS_N0_502, B3 PS_DDR_DQ1_502, B4 PS_DDR_DRST_B_502, C1 PS_DDR_DQ6_502, C2 PS_DDR_DQS_P0_502, C3 PS_DDR_DQ0_502, D1 PS_DDR_DQ5_502, D3 PS_DDR_DQ4_502, D4 PS_DDR_A13_502, E1 PS_DDR_DQ7_502, E2 PS_DDR_DQ8_502, E3 PS_DDR_DQ9_502, E4 PS_DDR_A12_502, F1 PS_DDR_DM1_502, F2 PS_DDR_DQS_N1_502, F4 PS_DDR_A14_502, F5 PS_DDR_A10_502, G2 PS_DDR_DQS_P1_502, G3 PS_DDR_DQ10_502, G4 PS_DDR_A11_502, G5 PS_DDR_VRN_502, H1 PS_DDR_DQ14_502, H2 PS_DDR_DQ13_502, H3 PS_DDR_DQ11_502, H5 PS_DDR_VRP_502, H6 PS_DDR_VREF0_502, J1 PS_DDR_DQ15_502, J3 PS_DDR_DQ12_502, J4 PS_DDR_A9_502, J5 PS_DDR_BA2_502, K1 PS_DDR_A8_502, K2 PS_DDR_A1_502, K3 PS_DDR_A3_502, K4 PS_DDR_A7_502, L1 PS_DDR_A5_502, L2 PS_DDR_CKP_502, L4 PS_DDR_A6_502, L5 PS_DDR_BA0_502, M2 PS_DDR_CKN_502, M3 PS_DDR_A2_502, M4 PS_DDR_A4_502, M5 PS_DDR_WE_B_502, N1 PS_DDR_CS_B_502, N2 PS_DDR_A0_502, N3 PS_DDR_CKE_502, N5 PS_DDR_ODT_502, P1 PS_DDR_DQ16_502, P3 PS_DDR_DQ17_502, P4 PS_DDR_RAS_B_502, P5 PS_DDR_CAS_B_502, P6 PS_DDR_VREF1_502, R1 PS_DDR_DQ19_502, R2 PS_DDR_DQS_P2_502, R3 PS_DDR_DQ18_502, R4 PS_DDR_BA1_502, T1 PS_DDR_DM2_502, T2 PS_DDR_DQS_N2_502, T4 PS_DDR_DQ20_502, U2 PS_DDR_DQ22_502, U3 PS_DDR_DQ23_502, U4 PS_DDR_DQ21_502, V1 PS_DDR_DQ24_502, V2 PS_DDR_DQ30_502, V3 PS_DDR_DQ31_502, W1 PS_DDR_DQ26_502, W3 PS_DDR_DQ29_502, W4 PS_DDR_DQS_N3_502, W5 PS_DDR_DQS_P3_502, Y1 PS_DDR_DM3_502, Y2 PS_DDR_DQ28_502, Y3 PS_DDR_DQ25_502, Y4 PS_DDR_DQ27_502